# Altium schematic symbol library MSi.SchLib: 2 symbols
Pins are listed as number, name and electrical type; pins without a type are passive.

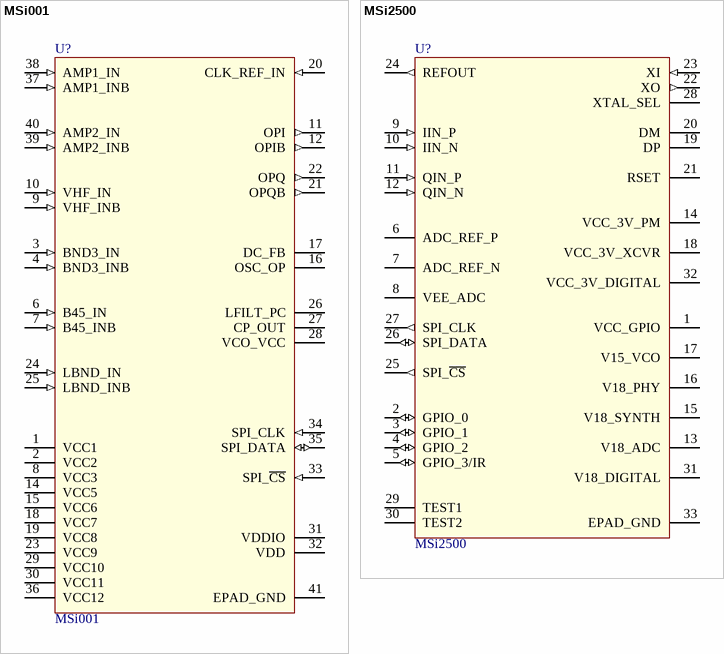
[diagram p0: symbols MSi001 to MSi2500]

## MSi001
designator U?
Multi-mode Tuner; Value: MSi001
footprint QFN-40-6x6 (Footprint not found)
pins: 1 VCC1 (power) "+ve Supply", 2 VCC2 (power) "+ve Supply", 3 BND3_IN (in) "Band III RF IP", 4 BND3_INB (in) "Band III RF IPB", 6 B45_IN (in) "Band IV/V RF IP", 7 B45_INB (in) "Band IV/V RF IPB", 8 VCC3 (power) "+ve Supply", 9 VHF_INB (in) "VHF RF IPB", 10 VHF_IN (in) "VHF RF IP", 11 OPI (out) "I Channel OP", 12 OPIB (out) "I Channel OPB", 14 VCC5 (power) "+ve Supply", 15 VCC6 (power) "+ve Supply", 16 OSC_OP "1.84 MHz OP", 17 DC_FB "DC Feedback", 18 VCC7 (power) "+ve Supply", 19 VCC8 (power) "+ve Supply", 20 CLK_REF_IN (in) "Xtal Reference Input", 21 OPQB (out) "Q Channel OPB", 22 OPQ (out) "Q Channel OP", 23 VCC9 (power) "+ve Supply", 24 LBND_IN (in) "L-Band RF IP", 25 LBND_INB (in) "L-Band RF IPB", 26 LFILT_PC "Synth Loop filter pre-charge", 27 CP_OUT "Synth Charge Pump OP", 28 VCO_VCC "VCO2 bias decouple", 29 VCC10 (power) "+ve Supply", 30 VCC11 (power) "+ve Supply", 31 VDDIO (power) "Serial Interface Ref. Voltage", 32 VDD (power) "Digital +ve Supply", 33 SPI_~{CS} (in) "Serial port enable", 34 SPI_CLK (in) "Serial port clock", 35 SPI_DATA (io) "Serial port data", 36 VCC12 (power) "+ve Supply", 37 AMP1_INB (in) "High Impedance AM Port 1 INB", 38 AMP1_IN (in) "High Impedance AM Port 1 INB", 39 AMP2_INB (in) "Low Impedance AM Port 2 INB", 40 AMP2_IN (in) "Low Impedance AM Port 2 IN", 41 EPAD_GND (power) "-ve Supply connection"

## MSi2500
designator U?
Mirics FlexiTVTM USB Interface IC; Value: MSi2500
footprint QFN-32-5x5 (Footprint not found)
pins: 1 VCC_GPIO (power) "GPIO Supply Regulator Output (1.8 V typ.)", 2 GPIO_0 (io), 3 GPIO_1 (io), 4 GPIO_2 (io), 5 GPIO_3/IR (io), 6 ADC_REF_P "ADC Ref Decoupling", 7 ADC_REF_N "ADC Ref Decoupling", 8 VEE_ADC (power) "ADC ground", 9 IIN_P (in) "I Channel ADC input", 10 IIN_N (in) "I Channel ADC input", 11 QIN_P (in) "Q Channel ADC input", 12 QIN_N (in) "Q Channel ADC input", 13 V18_ADC (power), 14 VCC_3V_PM (power), 15 V18_SYNTH (power), 16 V18_PHY (power), 17 V15_VCO (power), 18 VCC_3V_XCVR (power), 19 DP "USB D+", 20 DM "USB D-", 21 RSET "510 Ohm", 22 XO (out) "24MHz Xtal", 23 XI (in) "24MHz Xtal", 24 REFOUT (out), 25 SPI_~{CS} (out), 26 SPI_DATA (io), 27 SPI_CLK (out), 28 XTAL_SEL, 29 TEST1, 30 TEST2, 31 V18_DIGITAL (power), 32 VCC_3V_DIGITAL (power), 33 EPAD_GND (power)